# EAGLE library part DISPLAYTECH_64128M-FCBW-RGB_COG_SERIES_GLCD-128X68COG (library Displays)
Displaytech 128x64_COG_Series Daten:75mm x 50mm, VDD 3.0V Artikelnummer:#keine feste Artikelnummer vorhanden / Atikel nicht lagermäßig vorhanden! Datenblatt:https://www.displaytech-us.com/128x64-graphic-lcd-displays-m __________________________________________ generated by Eagle Description Tool am : 22.01.2014 14:51:03 erstellt von: Gz
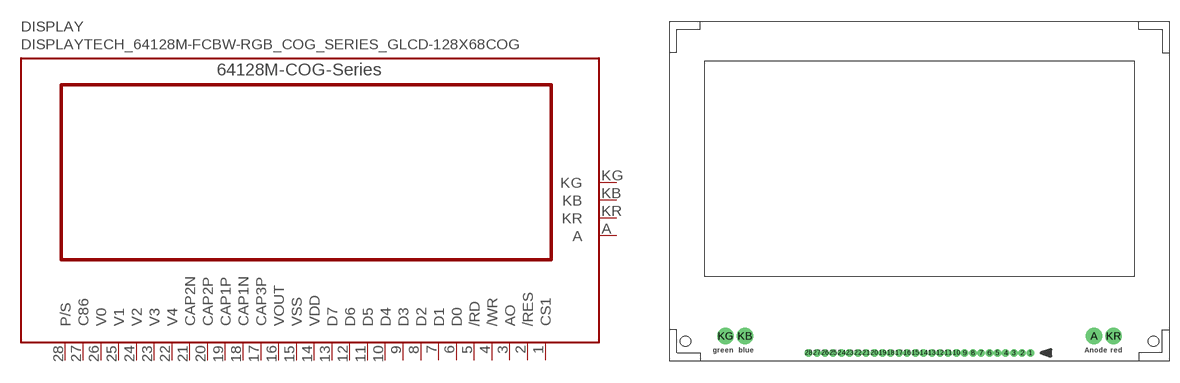
[diagram p0: symbol with the pads of DISPLAYTECH_64128M-FCBW-RGB_COG_SERIES_GLCD-128X68COG; footprint DISPLAYTECH_64128M-FCBW-RGB_COG_SERIES_GLCD-128X68COG]

Designator prefix DISPLAY

## DISPLAYTECH_64128M-FCBW-RGB_COG_SERIES_GLCD-128X68COG  [DISPLAYTECH_64128M-FCBW-RGB_COG_SERIES_GLCD-128X68COG]
1  CS1  in
2  /RES  in
3  AO  in
4  /WR  in
5  /RD  in
6  D0  in
7  D1
8  D2
9  D3
10  D4
11  D5
12  D6
13  D7
14  VDD  pwr
15  VSS  pwr
16  VOUT  pwr
17  CAP3P  pwr
18  CAP1N  pwr
19  CAP1P  pwr
20  CAP2P  pwr
21  CAP2N  pwr
22  V4  in
23  V3  in
24  V2  in
25  V1  in
26  V0  in
27  C86  in
28  P/S  in
A  A  in
KB  KB  in
KG  KG  in
KR  KR  in

## Footprint DISPLAYTECH_64128M-FCBW-RGB_COG_SERIES_GLCD-128X68COG (pad centres in mm)
drill 0.65: 1 17.14,-25; 2 15.87,-25; 3 14.6,-25; 4 13.33,-25; 5 12.06,-25; 6 10.79,-25; 7 9.52,-25; 8 8.25,-25; 9 6.98,-25; 10 5.71,-25; 11 4.44,-25; 12 3.17,-25; 13 1.9,-25; 14 0.63,-25; 15 -0.64,-25; 16 -1.91,-25; 17 -3.18,-25; 18 -4.45,-25; 19 -5.72,-25; 20 -6.99,-25; 21 -8.26,-25; 22 -9.53,-25; 23 -10.8,-25; 24 -12.07,-25; 25 -13.34,-25; 26 -14.61,-25; 27 -15.88,-25; 28 -17.15,-25
drill 1.7: A 27,-22.41; KB -27,-22.41; KG -30,-22.41; KR 30,-22.41
hole 1.6 at -36.2,-23.2
hole 1.6 at 36.2,-23.2